# Altium schematic symbol library AUVic_Schematic_Library_Logic.SchLib: 7 symbols
Pins are listed as number, name and electrical type; pins without a type are passive.

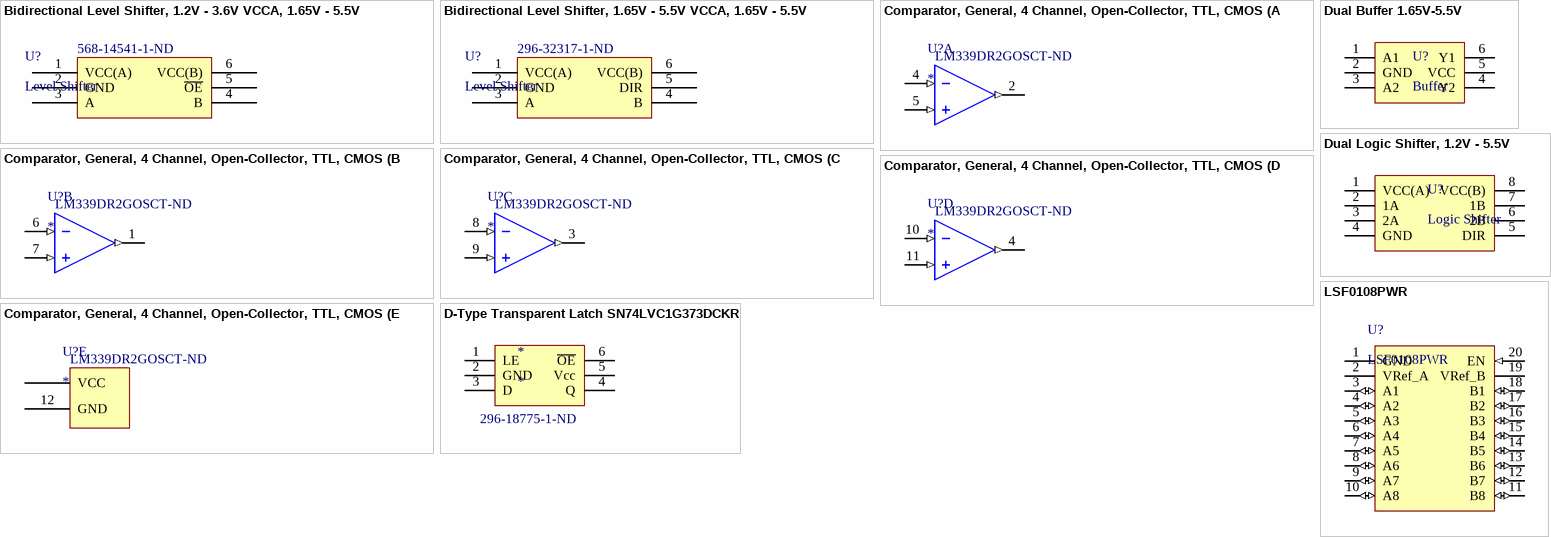
[diagram p0: symbols Bidirectional Level Shifter, 1.2V - 3.6V VCCA, 1.65V - 5.5V VCCB to LSF0108PWR]

## Bidirectional Level Shifter, 1.2V - 3.6V VCCA, 1.65V - 5.5V VCCB
designator U?, comment Level Shifter  Supplier Part Number: 568-14541-1-ND
Voltage Level Translator Bidirectional 1 Circuit 1 Channel 100Mbps SC-88 (SOT-363); Made By: Robert Keen; Made on: 2018-08-13; ComponentLink1Description: Digikey; ComponentLink1URL: https://www.digikey.ca/product-detail/en/nxp-usa-inc/NTB0101AGWH/568-14541-1-ND/9449849; Supplier 1: Digi-Key
footprint SOT-363
pins: 1 VCC(A), 2 GND, 3 A, 4 B, 5 ~{OE}, 6 VCC(B)

## Bidirectional Level Shifter, 1.65V - 5.5V VCCA, 1.65V - 5.5V VCCB
designator U?, comment Level Shifter  Supplier Part Number 1: 296-32317-1-ND
Voltage Level Translator Bidirectional 1 Circuit 1 Channel 420Mbps SC-88 (SOT-363); Made By: Andy Bates; Made on: 2018-08-16; ComponentLink1Description: Digikey; ComponentLink1URL: https://www.digikey.ca/product-detail/en/nxp-usa-inc/NTB0101AGWH/568-14541-1-ND/9449849; Supplier 1: Digi-Key
footprint SOT-363
pins: 1 VCC(A), 2 GND, 3 A, 4 B, 5 DIR, 6 VCC(B)

## Comparator, General, 4 Channel, Open-Collector, TTL, CMOS
designator U?  Supplier Part Number 1: LM339DR2GOSCT-ND
Comparator, General, 4 Channel, Open-Collector, TTL, CMOS; Channels: 4; Created By: Ashwin Sira; Publisher: AUVic; Supplier 1: Digi-Key
part A pins: 2 Output (out), 4 Inverting Input (in), 5 Non-Inverting Input (in)
part B pins: 1 Output (out), 6 Inverting Input (in), 7 Non-Inverting Input (in)
part C pins: 3 Output (out), 8 Inverting Input (in), 9 Non-Inverting Input (in)
part D pins: 4 Output (out), 10 Inverting Input (in), 11 Non-Inverting Input (in)
part E pins: 3 VCC (power), 12 GND (power)

## D-Type Transparent Latch SN74LVC1G373DCKR
designator *  Supplier Part Number 1: 296-18775-1-ND
Supplier 1: Digi-Key
pins: 1 LE, 2 GND, 3 D, 4 Q, 5 Vcc, 6 ~{OE}

## Dual Buffer 1.65V-5.5V
designator U?, comment Buffer
Made By: Andy Bates; Supplier 1: Digikey; Supplier 1 Part Number: NC7WZ07P6XCT-ND
footprint 6TSSOP
pins: 1 A1, 2 GND, 3 A2, 4 Y2, 5 VCC, 6 Y1

## Dual Logic Shifter, 1.2V - 5.5V
designator U?, comment Logic Shifter
Made By: Andy Bates; Supplier 1: Digikey; Supplier 1 Part Number: 568-5497-1-ND
footprint 8TSSOP
pins: 1 VCC(A), 2 1A, 3 2A, 4 GND, 5 DIR, 6 2B, 7 1B, 8 VCC(B)

## LSF0108PWR
designator U?
Level Shifter, Bidirectional, 8 Channel, 1 Circuit, VA 0.95V-4.5V, VB 1.8V-5.5V; Manufacturer: Texas Instruments; Channels: 8; Circuits: 1; Created By: Ashwin Sira; Publisher: AUVic; Manufacturer #: LSF0108PWR; Supplier 1: Digi-Key; Supplier Part Number 1: 296-37828-1-ND
footprint TSOP65P640X120-20N (TSOP, 20-Leads, Body 6.50x4.40mm, Pitch 0.65mm, IPC Medium Density)
pins: 1 GND (power), 2 VRef_A (power), 3 A1 (io), 4 A2 (io), 5 A3 (io), 6 A4 (io), 7 A5 (io), 8 A6 (io), 9 A7 (io), 10 A8 (io), 11 B8 (io), 12 B7 (io), 13 B6 (io), 14 B5 (io), 15 B4 (io), 16 B3 (io), 17 B2 (io), 18 B1 (io), 19 VRef_B (power), 20 EN (in)